# Altium footprint library SOW-16.PcbLib: 1 footprints
Each footprint in its own frame and in the unit in brackets; x right, y up, seen from the top. Pads: shape width x height; smd on the part's side, far side on the other; paste and mask are expansions set on the pad; w line width, h text height; cw(c..) or ccw(c..) is an arc to the next point about the centre after c.
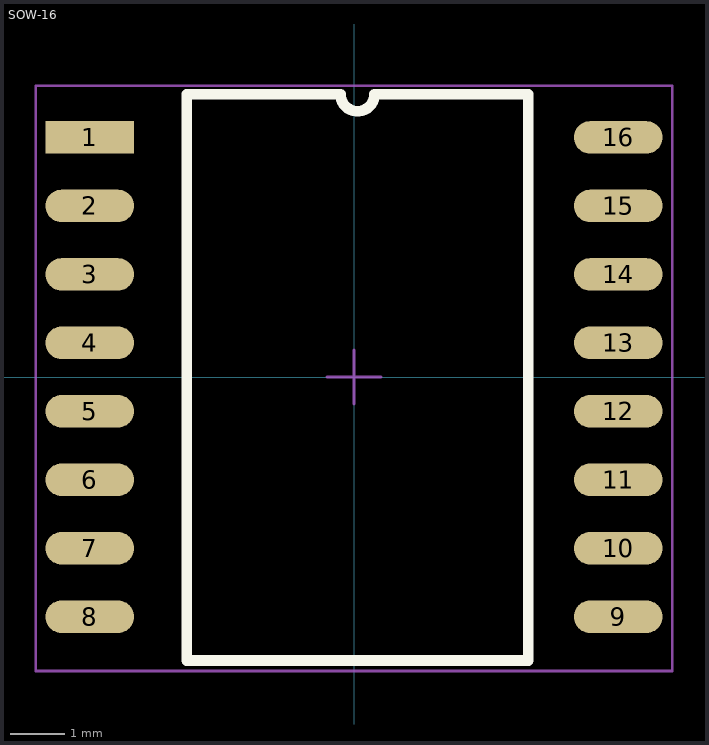
[diagram p0: the footprint, top view; thin cyan lines are the x and y axes]

## SOW-16 [mm] "Small Outline Wide Body"
pads (16):
  rect 1.65x0.6 smd: 1(-4.9,4.445)
  oval 1.65x0.6 smd: 2(-4.9,3.175) 3(-4.9,1.905) 4(-4.9,0.635) 5(-4.9,-0.635) 6(-4.9,-1.905) 7(-4.9,-3.175) 8(-4.9,-4.445) 9(4.9,-4.445) 10(4.9,-3.175) 11(4.9,-1.905) 12(4.9,-0.635) 13(4.9,0.635) 14(4.9,1.905) 15(4.9,3.175) 16(4.9,4.445)
Top Overlay:
  lines w0.2: -3.1,-5.255 -3.1,5.245 -0.253,5.245 ccw(c0.065,5.245) 0.382,5.245 3.23,5.245 3.23,-5.255 -3.1,-5.255
Mechanical 15:
  lines w0.05: -0.5,0 0.5,0 ; 0,-0.5 0,0.5 ; -5.9,-5.45 5.9,-5.45 5.9,5.4 -5.9,5.4 -5.9,-5.45
3D body "SOIC16 wide.stp": height 1.97, standoff -0.02, extent -5.1,-5.035 5.063,5.045